# Altium footprint library PBD-2.PcbLib: 1 footprints
Each footprint in its own frame and in the unit in brackets; x right, y up, seen from the top. Pads: shape width x height; smd on the part's side, far side on the other; paste and mask are expansions set on the pad; w line width, h text height; cw(c..) or ccw(c..) is an arc to the next point about the centre after c.
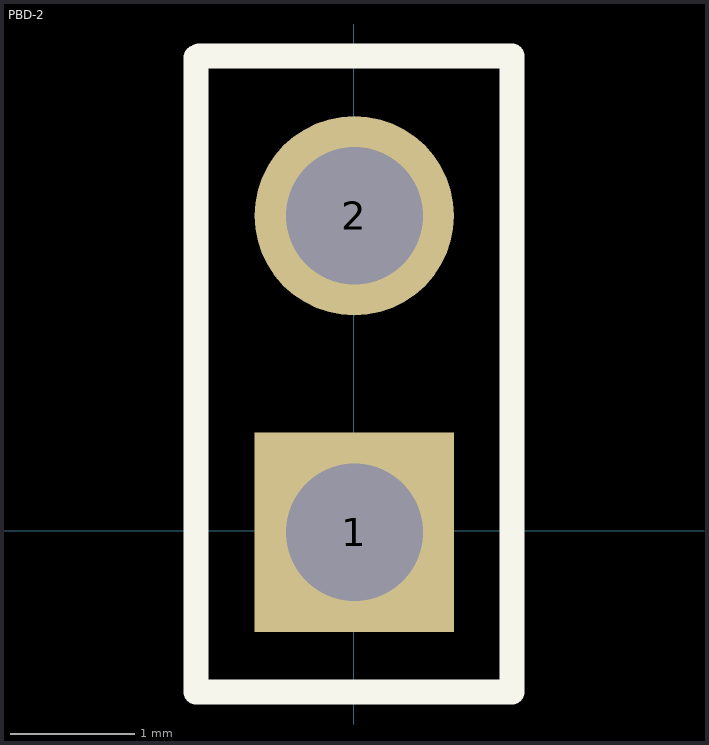
[diagram p0: the footprint, top view; thin cyan lines are the x and y axes]

## PBD-2 [mm]
pads (2):
  rect 1.6x1.6 hole 1.1: 1(0.005,-0.012)
  round 1.6 hole 1.1: 2(0.005,2.528)
Top Overlay:
  lines w0.2: -1.265,3.798 -1.265,-1.295 1.27,-1.295 1.27,3.811 -1.24,3.811